# EAGLE library part DRV8848PWP (library YOUWASH_V0.1)
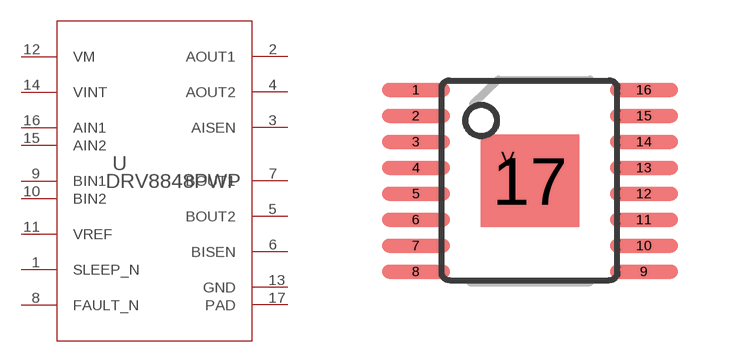
[diagram p5: symbol with the pads of PWP0016C_N; footprint PWP0016C_N]

Designator prefix U

## DRV8848PWP (ALTERNATEPARTNUMBER: DRV8848PWP; COMPTYPE: IC; MANUFACTURER: Texas Instruments; MOUNTTYPE: SMT; PACKAGEREFERENCE: PWP0016C; PARTNUMBER: DRV8848PWPR; PIN_COUNT: 17; REFDES: RefDes; ROHS: Y; TYPE: TYPE; VALUE: Value)  [PWP0016C_N]
1  SLEEP_N  in
2  AOUT1  pwr
3  AISEN  in
4  AOUT2  pwr
5  BOUT2  pwr
6  BISEN  in
7  BOUT1  pwr
8  FAULT_N  oc
9  BIN1  in
10  BIN2  in
11  VREF  in
12  VM  pwr
13  GND  pwr
14  VINT  pwr
15  AIN2  in
16  AIN1  in
17  PAD  pwr

## Footprint PWP0016C_N (pad centres in mm)
smd 1.702 x 0.356: 1 -2.85,2.275; 2 -2.85,1.625; 3 -2.85,0.975; 4 -2.85,0.325; 5 -2.85,-0.325; 6 -2.85,-0.975; 7 -2.85,-1.625; 8 -2.85,-2.275; 9 2.85,-2.275; 10 2.85,-1.625; 11 2.85,-0.975; 12 2.85,-0.325; 13 2.85,0.325; 14 2.85,0.975; 15 2.85,1.625; 16 2.85,2.275
smd 2.464 x 2.311: 17 0,0
smd 0.508 x 0.508: V -0.55,0.55